# Altium footprint library QFN50P800X800X100_HS-57N.PcbLib: 1 footprints
Each footprint in its own frame and in the unit in brackets; x right, y up, seen from the top. Pads: shape width x height; smd on the part's side, far side on the other; paste and mask are expansions set on the pad; w line width, h text height; cw(c..) or ccw(c..) is an arc to the next point about the centre after c.
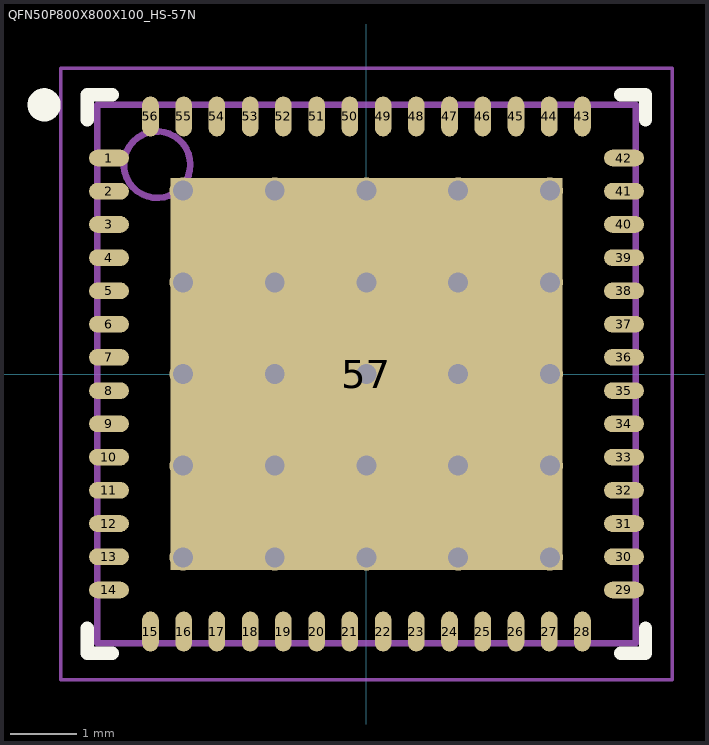
[diagram p0: the footprint, top view; thin cyan lines are the x and y axes]

## QFN50P800X800X100_HS-57N [mm] "QFN, 56-Leads, Body 8.00x8.00mm, Pitch 0.50mm, Thermal Pad 5.90x5.90mm, IPC Medium Density"
height 1
pads (57):
  oval 0.6x0.25 smd paste+0 mask+0.07: 1(-3.875,3.25) 2(-3.875,2.75) 3(-3.875,2.25) 4(-3.875,1.75) 5(-3.875,1.25) 6(-3.875,0.75) 7(-3.875,0.25) 8(-3.875,-0.25) 9(-3.875,-0.75) 10(-3.875,-1.25) 11(-3.875,-1.75) 12(-3.875,-2.25) 13(-3.875,-2.75) 14(-3.875,-3.25) 29(3.875,-3.25) 30(3.875,-2.75) 31(3.875,-2.25) 32(3.875,-1.75) 33(3.875,-1.25) 34(3.875,-0.75) 35(3.875,-0.25) 36(3.875,0.25) 37(3.875,0.75) 38(3.875,1.25) 39(3.875,1.75) 40(3.875,2.25) 41(3.875,2.75) 42(3.875,3.25)
  oval 0.25x0.6 smd paste+0 mask+0.07: 15(-3.25,-3.875) 16(-2.75,-3.875) 17(-2.25,-3.875) 18(-1.75,-3.875) 19(-1.25,-3.875) 20(-0.75,-3.875) 21(-0.25,-3.875) 22(0.25,-3.875) 23(0.75,-3.875) 24(1.25,-3.875) 25(1.75,-3.875) 26(2.25,-3.875) 27(2.75,-3.875) 28(3.25,-3.875) 43(3.25,3.875) 44(2.75,3.875) 45(2.25,3.875) 46(1.75,3.875) 47(1.25,3.875) 48(0.75,3.875) 49(0.25,3.875) 50(-0.25,3.875) 51(-0.75,3.875) 52(-1.25,3.875) 53(-1.75,3.875) 54(-2.25,3.875) 55(-2.75,3.875) 56(-3.25,3.875)
  rect 5.9x5.9 smd paste-10 mask-10: 57(0,0)
via -1.38,2.76 diameter 0.4 hole 0.3
via 0,2.76 diameter 0.4 hole 0.3
via 1.38,2.76 diameter 0.4 hole 0.3
via -2.76,1.38 diameter 0.4 hole 0.3
via -1.38,1.38 diameter 0.4 hole 0.3
via 0,1.38 diameter 0.4 hole 0.3
via 1.38,1.38 diameter 0.4 hole 0.3
via 2.76,1.38 diameter 0.4 hole 0.3
via -2.76,0 diameter 0.4 hole 0.3
via -1.38,0 diameter 0.4 hole 0.3
via 0,0 diameter 0.4 hole 0.3
via 1.38,0 diameter 0.4 hole 0.3
via 2.76,0 diameter 0.4 hole 0.3
via -2.76,-1.38 diameter 0.4 hole 0.3
via -1.38,-1.38 diameter 0.4 hole 0.3
via 0,-1.38 diameter 0.4 hole 0.3
via 1.38,-1.38 diameter 0.4 hole 0.3
via 2.76,-1.38 diameter 0.4 hole 0.3
via -1.38,-2.76 diameter 0.4 hole 0.3
via 0,-2.76 diameter 0.4 hole 0.3
via 1.38,-2.76 diameter 0.4 hole 0.3
via -2.76,-2.76 diameter 0.4 hole 0.3
via 2.76,-2.76 diameter 0.4 hole 0.3
via 2.76,2.76 diameter 0.4 hole 0.3
via -2.76,2.76 diameter 0.4 hole 0.3
Top Overlay:
  circle w0.25: c-4.85,4.05 r0.125
  lines w0.2: -4.2,-3.825 -4.2,-4.2 -3.825,-4.2 ; -4.2,3.825 -4.2,4.2 -3.825,4.2 ; 3.825,-4.2 4.2,-4.2 4.2,-3.825 ; 3.825,4.2 4.2,4.2 4.2,3.825
Top Paste:
  rectangle: -2.66,-2.66 -1.48,-1.48
  rectangle: -1.28,-2.66 -0.1,-1.48
  rectangle: 0.1,-2.66 1.28,-1.48
  rectangle: 1.48,-2.66 2.66,-1.48
  rectangle: -2.66,-1.28 -1.48,-0.1
  rectangle: -1.28,-1.28 -0.1,-0.1
  rectangle: 0.1,-1.28 1.28,-0.1
  rectangle: 1.48,-1.28 2.66,-0.1
  rectangle: -2.66,0.1 -1.48,1.28
  rectangle: -1.28,0.1 -0.1,1.28
  rectangle: 0.1,0.1 1.28,1.28
  rectangle: 1.48,0.1 2.66,1.28
  rectangle: 1.48,1.48 2.66,2.66
  rectangle: 0.1,1.48 1.28,2.66
  rectangle: -1.28,1.48 -0.1,2.66
  rectangle: -2.66,1.48 -1.48,2.66
Top Solder:
  rectangle: -2.96,-2.96 2.96,2.96
Mechanical 2:
  circle w0.1: c-3.15,3.15 r0.5
  lines w0.1: -4.05,-4.05 -4.05,4.05 4.05,4.05 4.05,-4.05 -4.05,-4.05
Mechanical 4:
  lines w0.05: -4.6,-4.6 -4.6,4.6 4.6,4.6 4.6,-4.6 -4.6,-4.6
  lines w0.1: -0.5,0 0.5,0 ; 0,-0.5 0,0.5
3D body "QFN50P800X800X100_HS-57N.step": height 1, standoff 0, extent -4.1,-4.1 4.1,4.1